# EAGLE library part TPS2500 (library anykey)
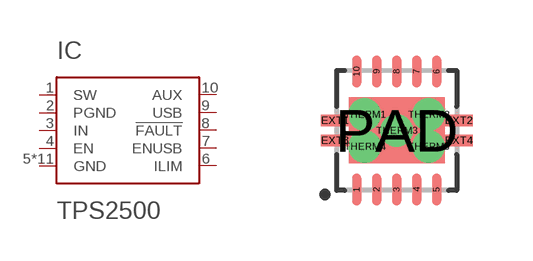
[diagram p48: symbol with the pads of SON10-0.5-EP-VIAS; footprint SON10-0.5-EP-VIAS]

Designator prefix IC

## TPS2500SON10  [SON10-0.5-EP-VIAS]
1  SW
2  PGND
3  IN
4  EN
5  GND
6  ILIM
7  ENUSB
8  !FAULT
9  USB
10  AUX
EXT1  GND
EXT2  GND
EXT3  GND
EXT4  GND
PAD  GND
THERM1  GND
THERM2  GND
THERM3  GND
THERM4  GND
THERM5  GND

## Footprint SON10-0.5-EP-VIAS (pad centres in mm)
SON-10 package with exposed pad and five thermal vias
smd 0.23 x 0.8: 1 -1,-1.475; 2 -0.5,-1.475; 3 0,-1.475; 4 0.5,-1.475; 5 1,-1.475; 6 1,1.475; 7 0.5,1.475; 8 0,1.475; 9 -0.5,1.475; 10 -1,1.475
smd 0.7 x 0.28: EXT1 -1.55,0.25; EXT2 1.55,0.25; EXT3 -1.55,-0.25; EXT4 1.55,-0.25
smd 2.4 x 1.65: PAD 0,0
drill 0.3: THERM1 -0.8,0.4; THERM2 0.8,0.4; THERM3 0,0; THERM4 -0.8,-0.4; THERM5 0.8,-0.4